# EAGLE library part CASR (library custom_parts)
LEM CASR current sensor www.lem.com
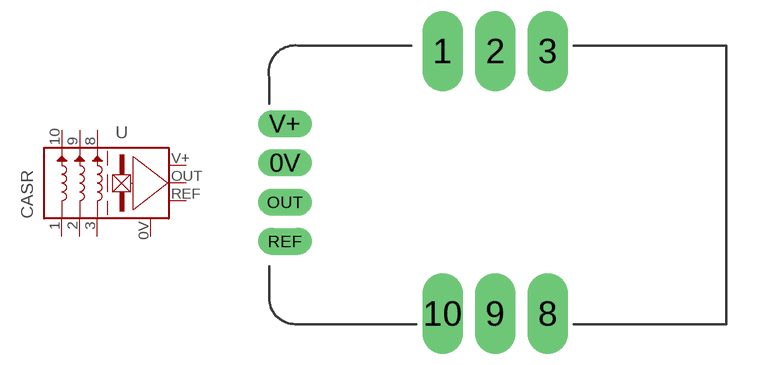
[diagram p25: symbol with the pads of CASR; footprint CASR]

Designator prefix -

## CASR  [CASR]
0V  0V  in
1  IN1  in
2  IN2  in
3  IN3  in
8  OUT8  in
9  OUT9  in
10  OUT10  in
OUT  VOUT  out
REF  VREF  out
V+  V+  in

## Footprint CASR (pad centres in mm)
LEM CASR current sensor www.lem.com
drill 0.8 long: 0V -10.16,0.953; OUT -10.16,-0.953; REF -10.16,-2.845; V+ -10.16,2.845
drill 1.3 long: 1 -2.54,6.35; 2 0,6.35; 3 2.54,6.35; 8 2.54,-6.35; 9 0,-6.35; 10 -2.54,-6.35